# EAGLE library part DAC_MAX5816 (library akita)
Maxim's MAX5816, Quad 12bit DAC with I2C
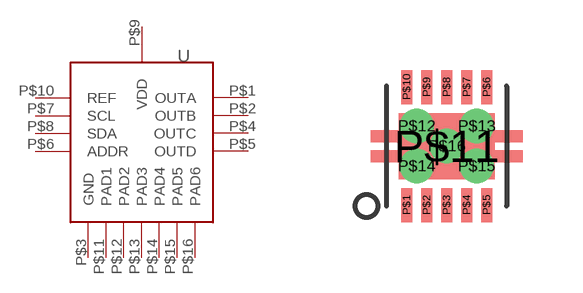
[diagram p194: symbol with the pads of DFN10E; footprint DFN10E]

Designator prefix U

## DAC_MAX5816  [DFN10E]
P$1  OUTA
P$2  OUTB
P$3  GND
P$4  OUTC
P$5  OUTD
P$6  ADDR
P$7  SCL
P$8  SDA
P$9  VDD
P$10  REF
P$11  PAD1
P$12  PAD2
P$13  PAD3
P$14  PAD4
P$15  PAD5
P$16  PAD6

## Footprint DFN10E (pad centres in mm)
DFN10, 3x3mm, 0.5mm, with EPAD
smd 0.28 x 0.85: P$1 -1,-1.475; P$2 -0.5,-1.475; P$3 0,-1.475; P$4 0.5,-1.475; P$5 1,-1.475; P$6 1,1.475; P$7 0.5,1.475; P$8 0,1.475; P$9 -0.5,1.475; P$10 -1,1.475
smd 2.4 x 1.65: P$11 0,0
drill 0.35 pad 0.5: P$12 -0.75,0.5; P$13 0.75,0.5; P$14 -0.75,-0.5; P$15 0.75,-0.5; P$16 0,0